# EAGLE library part USB_MINI_HIROSE_UX60SC (library sapphire)
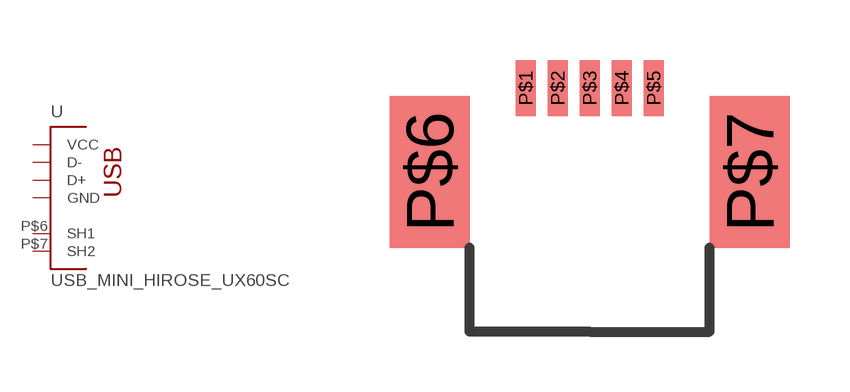
[diagram p15: symbol with the pads of USB-MINI-B_HIROSE_UX60SC; footprint USB-MINI-B_HIROSE_UX60SC]

Designator prefix -

## USB_MINI_HIROSE_UX60SC  [USB-MINI-B_HIROSE_UX60SC]
P$1  VCC
P$2  D-
P$3  D+
P$5  GND
P$6  SH1
P$7  SH2

## Footprint USB-MINI-B_HIROSE_UX60SC (pad centres in mm)
smd 0.5 x 1.4: P$1 -1.6,6.1; P$2 -0.8,6.1; P$3 0,6.1; P$4 0.8,6.1; P$5 1.6,6.1
smd 2 x 3.8: P$6 -4,4; P$7 4,4